# Altium schematic symbol library Switch.SchLib: 1 symbol
Pins are listed as number, name and electrical type; pins without a type are passive.

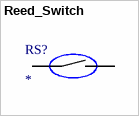
[diagram p0: symbol Reed_Switch]

## Reed_Switch
designator RS?
footprint PIN_2.54_2_ARRAY
pins: 1, 2